# EAGLE library part TEENSY4.1 (library Teensy 4.1 Board Design v5)
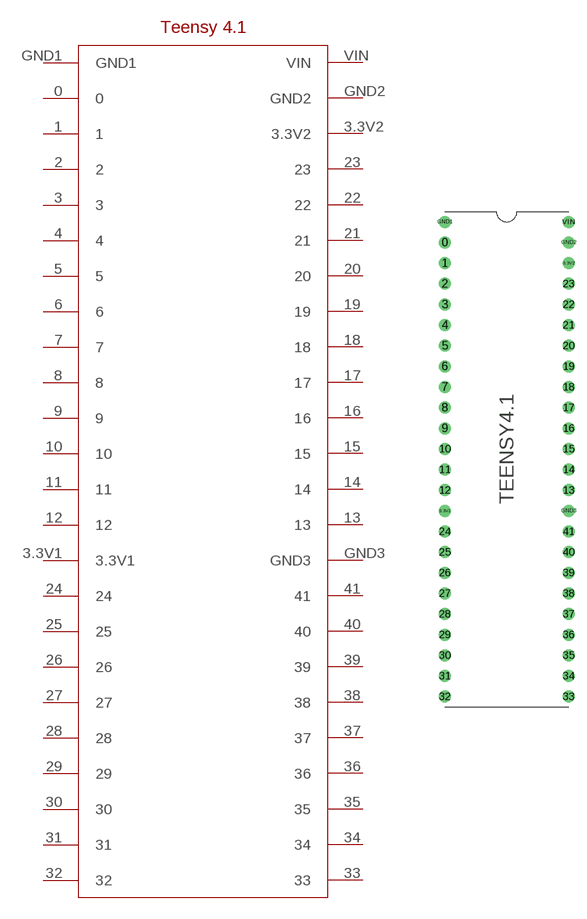
[diagram p0: symbol with the pads of TEENSY4.1FOOTPRINT; footprint TEENSY4.1FOOTPRINT]

Designator prefix -

## TEENSY4.1  [TEENSY4.1FOOTPRINT]
0  0
1  1
2  2
3  3
3.3V1  3.3V1
3.3V2  3.3V2
4  4
5  5
6  6
7  7
8  8
9  9
10  10
11  11
12  12
13  13
14  14
15  15
16  16
17  17
18  18
19  19
20  20
21  21
22  22
23  23
24  24
25  25
26  26
27  27
28  28
29  29
30  30
31  31
32  32
33  33
34  34
35  35
36  36
37  37
38  38
39  39
40  40
41  41
GND1  GND1
GND2  GND2
GND3  GND3
VIN  VIN

## Footprint TEENSY4.1FOOTPRINT (pad centres in mm)
drill 0.965: 0 0,55.88; 1 0,53.34; 2 0,50.8; 3 0,48.26; 3.3V1 0,22.86; 3.3V2 15.24,53.34; 4 0,45.72; 5 0,43.18; 6 0,40.64; 7 0,38.1; 8 0,35.56; 9 0,33.02; 10 0,30.48; 11 0,27.94; 12 0,25.4; 13 15.24,25.4; 14 15.24,27.94; 15 15.24,30.48; 16 15.24,33.02; 17 15.24,35.56; 18 15.24,38.1; 19 15.24,40.64; 20 15.24,43.18; 21 15.24,45.72; 22 15.24,48.26; 23 15.24,50.8; 24 0,20.32; 25 0,17.78; 26 0,15.24; 27 0,12.7; 28 0,10.16; 29 0,7.62; 30 0,5.08; 31 0,2.54; 32 0,0; 33 15.24,0; 34 15.24,2.54; 35 15.24,5.08; 36 15.24,7.62; 37 15.24,10.16; 38 15.24,12.7; 39 15.24,15.24; 40 15.24,17.78; 41 15.24,20.32; GND1 0,58.42; GND2 15.24,55.88; GND3 15.24,22.86; VIN 15.24,58.42